# EAGLE library part ATMEGA*U4 (library ic-ATMEL)
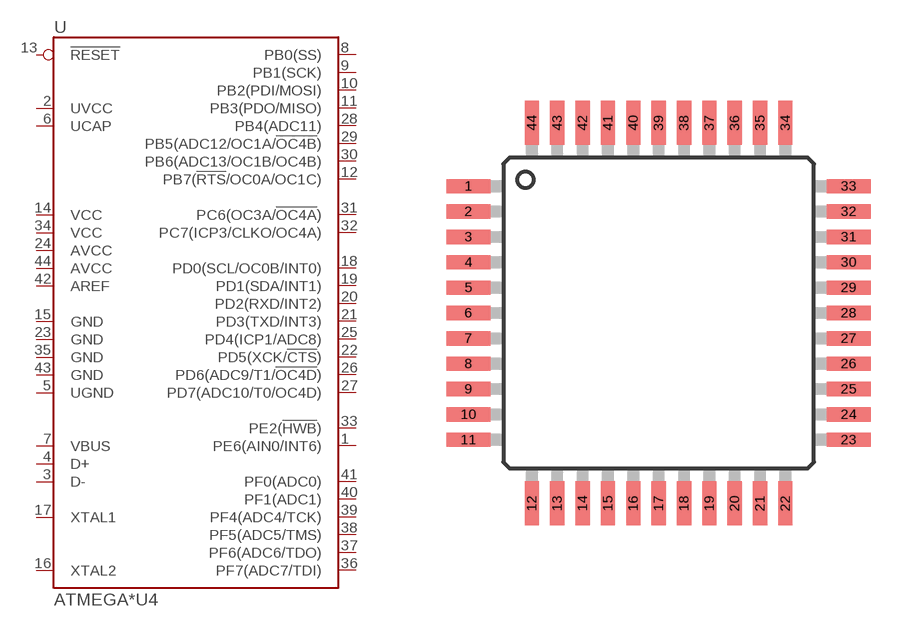
[diagram p6: symbol with the pads of QFP44-0.8; footprint QFP44-0.8]

Designator prefix U

## ATMEGA16U4-AU, ATMEGA32U4-AU  [QFP44-0.8]
1  PE6(AIN0/INT6)
2  UVCC
3  D-
4  D+
5  UGND
6  UCAP
7  VBUS
8  PB0(SS)
9  PB1(SCK)
10  PB2(PDI/MOSI)
11  PB3(PDO/MISO)
12  PB7(!RTS!/OC0A/OC1C)
13  !RESET
14  VCC
15  GND
16  XTAL2
17  XTAL1
18  PD0(SCL/OC0B/INT0)
19  PD1(SDA/INT1)
20  PD2(RXD/INT2)
21  PD3(TXD/INT3)
22  PD5(XCK/!CTS!)
23  GND
24  AVCC
25  PD4(ICP1/ADC8)
26  PD6(ADC9/T1/!OC4D!)
27  PD7(ADC10/T0/OC4D)
28  PB4(ADC11)
29  PB5(ADC12/OC1A/!OC4B!)
30  PB6(ADC13/OC1B/OC4B)
31  PC6(OC3A/!OC4A!)
32  PC7(ICP3/CLKO/OC4A)
33  PE2(!HWB!)
34  VCC
35  GND
36  PF7(ADC7/TDI)
37  PF6(ADC6/TDO)
38  PF5(ADC5/TMS)
39  PF4(ADC4/TCK)
40  PF1(ADC1)
41  PF0(ADC0)
42  AREF
43  GND
44  AVCC

## Footprint QFP44-0.8 (pad centres in mm)
smd 1.4 x 0.45: 1 -6,4; 2 -6,3.2; 3 -6,2.4; 4 -6,1.6; 5 -6,0.8; 6 -6,0; 7 -6,-0.8; 8 -6,-1.6; 9 -6,-2.4; 10 -6,-3.2; 11 -6,-4; 23 6,-4; 24 6,-3.2; 25 6,-2.4; 26 6,-1.6; 27 6,-0.8; 28 6,0; 29 6,0.8; 30 6,1.6; 31 6,2.4; 32 6,3.2; 33 6,4
smd 0.45 x 1.4: 12 -4,-6; 13 -3.2,-6; 14 -2.4,-6; 15 -1.6,-6; 16 -0.8,-6; 17 0,-6; 18 0.8,-6; 19 1.6,-6; 20 2.4,-6; 21 3.2,-6; 22 4,-6; 34 4,6; 35 3.2,6; 36 2.4,6; 37 1.6,6; 38 0.8,6; 39 0,6; 40 -0.8,6; 41 -1.6,6; 42 -2.4,6; 43 -3.2,6; 44 -4,6